# Altium schematic symbol library Temctrl.SchLib: 2 symbols
Pins are listed as number, name and electrical type; pins without a type are passive.

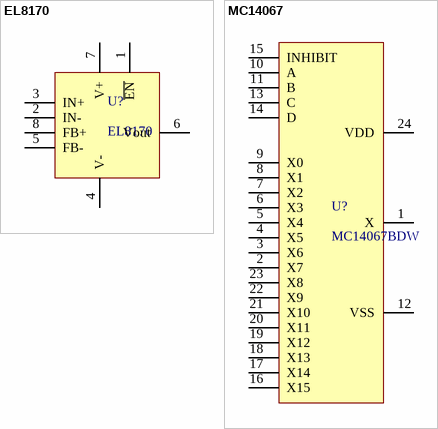
[diagram p0: symbols EL8170 to MC14067]

## EL8170
designator U?
footprint 751-06_M (8-Pin Small Outline Integrated Circuit 1.27 mm Pitch, IPC Low Density)
pins: 1 ~{EN}, 2 IN-, 3 IN+, 4 V-, 5 FB-, 6 Vout, 7 V+, 8 FB+

## MC14067
designator U?, comment MC14067BDW
footprint 751E-04_M (24-Pin Small Outline Integrated Circuit 1.27 mm Pitch, IPC Low Density)
pins: 1 X, 2 X7, 3 X6, 4 X5, 5 X4, 6 X3, 7 X2, 8 X1, 9 X0, 10 A, 11 B, 12 VSS, 13 C, 14 D, 15 INHIBIT, 16 X15, 17 X14, 18 X13, 19 X12, 20 X11, 21 X10, 22 X9, 23 X8, 24 VDD